# EAGLE library part LT3045-1 (library LM555-Jessica-Ly)
LT3045-1 Linear Regulator with VIOC Control Datasheet <https://www.mouser.com/datasheet/2/609/30451fa-1513158.pdf>
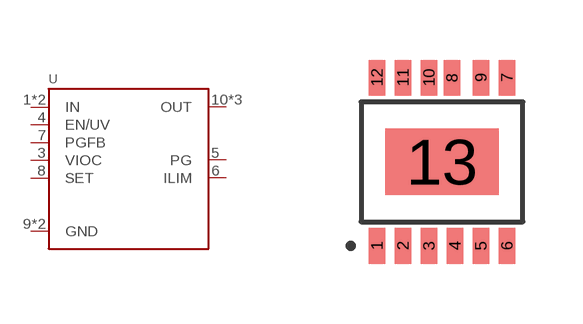
[diagram p39: symbol with the pads of MSE12; footprint MSE12]

Designator prefix U

## LT3045-1 (DKPN: LT3045EMSE-1#PBF-ND; MANUFACTURER: Analog Devices Inc.; MOPN: 584-LT3045EMSE-1#PBF; MPN: LT3045EMSE-1#PBF)  [MSE12]
1  IN  in
2  IN  in
3  VIOC  out
4  EN/UV  in
5  PG  in
6  ILIM  out
7  PGFB  oc
8  SET  out
9  GND  pwr
10  OUT  out
11  OUT  out
12  OUT  out
13  GND  pwr

## Footprint MSE12 (pad centres in mm)
MSE-12 MSOP 12 with exposed pad. Datasheet <https://www.analog.com/media/en/package-pcb-resources/package/pkg_pdf/ltc-legacy-msop/05087085.pdf>
smd 0.42 x 0.889: 1 -1.625,-2.106; 2 -0.975,-2.106; 3 -0.325,-2.106; 4 0.325,-2.106; 5 0.975,-2.106; 6 1.625,-2.106; 7 1.625,2.106; 8 0.25,2.106; 9 0.975,2.106; 10 -0.325,2.106; 11 -0.975,2.106; 12 -1.625,2.106
smd 2.845 x 1.651: 13 0,0